# EAGLE library part T60403 (library lbm)
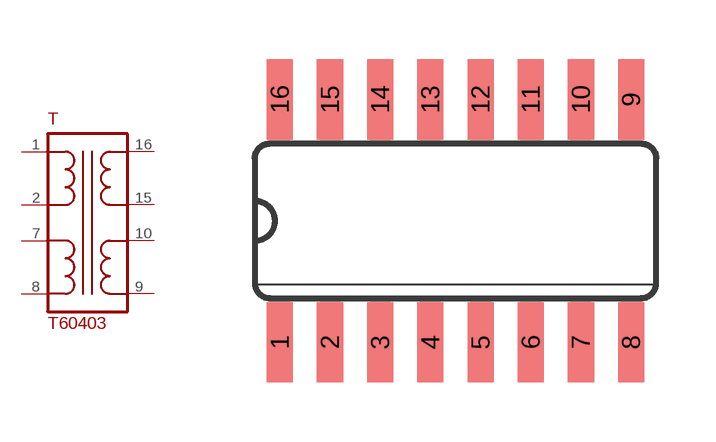
[diagram p34: symbol with the pads of SO16; footprint SO16]

Designator prefix T

## T60403  [SO16]
1  P$1
2  P$2
7  P$3
8  P$4
9  P$5
10  P$6
15  P$7
16  P$8

## Footprint SO16 (pad centres in mm)
smd 0.66 x 2.032: 1 -4.445,-3.073; 2 -3.175,-3.073; 3 -1.905,-3.073; 4 -0.635,-3.073; 5 0.635,-3.073; 6 1.905,-3.073; 7 3.175,-3.073; 8 4.445,-3.073; 9 4.445,3.073; 10 3.175,3.073; 11 1.905,3.073; 12 0.635,3.073; 13 -0.635,3.073; 14 -1.905,3.073; 15 -3.175,3.073; 16 -4.445,3.073